# Altium schematic symbol library MBRD20100CT-13.SchLib: 1 symbol
Pins are listed as number, name and electrical type; pins without a type are passive.

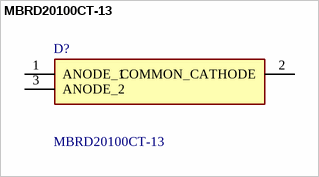
[diagram p0: symbol MBRD20100CT-13]

## MBRD20100CT-13
designator D?
Schottky Diodes & Rectifiers 20A Dual SBR 100Vrrm 150Ifsm 0.84; Manufacturer_Name: Diodes Incorporated; Geometry.Height: 2.52mm; Manufacturer_Part_Number: MBRD20100CT-13; Mouser Part Number: 621-MBRD20100CT-13; Mouser Price/Stock: https://www.mouser.co.uk/ProductDetail/Diodes-Incorporated/MBRD20100CT-13?qs=jXf%2FRVhl83botAnW1PVj%2FA%3D%3D; Arrow Part Number: MBRD20100CT-13; Arrow Price/Stock: https://www.arrow.com/en/products/mbrd20100ct-13/diodes-incorporated?utm_currency=USD&region=nac; Datasheet Link: https://www.diodes.com//assets/Datasheets/MBRD20100CT.pdf
footprint MBRD20100CT13
pins: 1 ANODE_1, 2 COMMON_CATHODE, 3 ANODE_2